# EAGLE library part AVR-JTAG10- (library atmel-avr)
AVR JTAG Debug/Programming Header
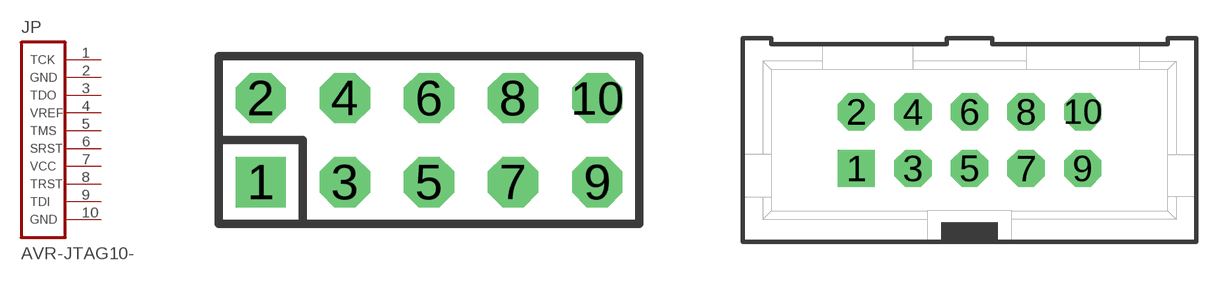
[diagram p2: symbol with the pads of HDR-MA05-2; footprints HDR-MA05-2, HDR-5103309-1]

Designator prefix JP

## AVR-JTAG10-MA05-2  [HDR-MA05-2]
1  1  pas
2  2  pas
3  3  pas
4  4  pas
5  5  pas
6  6  pas
7  7  pas
8  8  pas
9  9  pas
10  10  pas

## AVR-JTAG10-5103309-1  [HDR-5103309-1]
Pads as for HDR-MA05-2

## Footprint HDR-MA05-2 (pad centres in mm)
PIN HEADER
drill 1.016 square: 1 -5.08,-1.27
drill 1.016 octagon: 2 -5.08,1.27; 3 -2.54,-1.27; 4 -2.54,1.27; 5 0,-1.27; 6 0,1.27; 7 2.54,-1.27; 8 2.54,1.27; 9 5.08,-1.27; 10 5.08,1.27

## Footprint HDR-5103309-1 (pad centres in mm)
VERTICAL HEADER 10 position, Tyco
drill 0.914 pad 1.676 square: 1 -5.08,-1.27
drill 0.914 pad 1.676 octagon: 2 -5.08,1.27; 3 -2.54,-1.27; 4 -2.54,1.27; 5 0,-1.27; 6 0,1.27; 7 2.54,-1.27; 8 2.54,1.27; 9 5.08,-1.27; 10 5.08,1.27